# Altium schematic symbol library Extra_Space.SchLib: 1 symbol
Pins are listed as number, name and electrical type; pins without a type are passive.

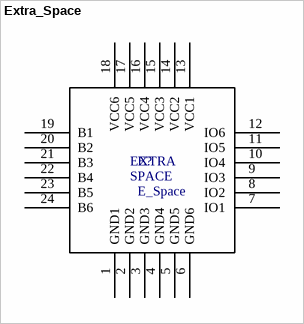
[diagram p0: symbol Extra_Space]

## Extra_Space
designator E?, comment E_Space
Group of through-hole connections for new components that were not planned. Space has connections to power, GND, PSoC GPIO, and miscellaneous connections.
footprint Extra_Space
pins: 1 GND1, 2 GND2, 3 GND3, 4 GND4, 5 GND5, 6 GND6, 7 IO1, 8 IO2, 9 IO3, 10 IO4, 11 IO5, 12 IO6, 13 VCC1, 14 VCC2, 15 VCC3, 16 VCC4, 17 VCC5, 18 VCC6, 19 B1, 20 B2, 21 B3, 22 B4, 23 B5, 24 B6
text: EXTRA; SPACE